# Altium footprint library BatteryPads.PcbLib: 1 footprints
Each footprint in its own frame and in the unit in brackets; x right, y up, seen from the top. Pads: shape width x height; smd on the part's side, far side on the other; paste and mask are expansions set on the pad; w line width, h text height; cw(c..) or ccw(c..) is an arc to the next point about the centre after c.
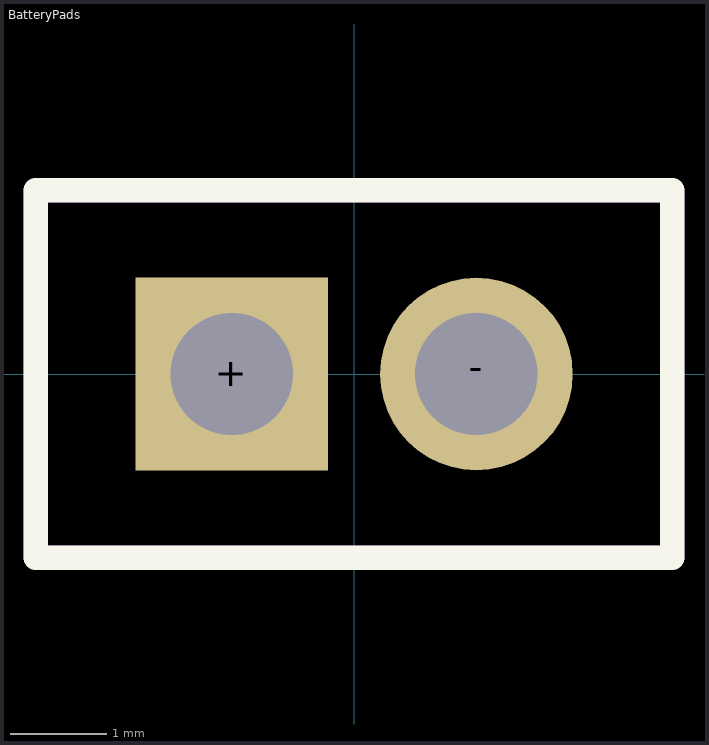
[diagram p0: the footprint, top view; thin cyan lines are the x and y axes]

## BatteryPads [mm]
pads (2):
  rect 2x2 / inner round 1.524 / far side rect 2x2 hole 1.27 square: +(-1.27,0)
  round 2 hole 1.27: -(1.27,0)
Top Overlay:
  lines w0.254: -3.302,-1.905 3.302,-1.905 3.302,1.905 -3.302,1.905 -3.302,-1.905
Mechanical 1:
  lines w0.254: -3.302,-1.905 3.302,-1.905 3.302,1.905 -3.302,1.905 -3.302,-1.905